# Altium schematic symbol library 电子脚扣终端主控板.SCHLIB: 16 symbols
Pins are listed as number, name and electrical type; pins without a type are passive.

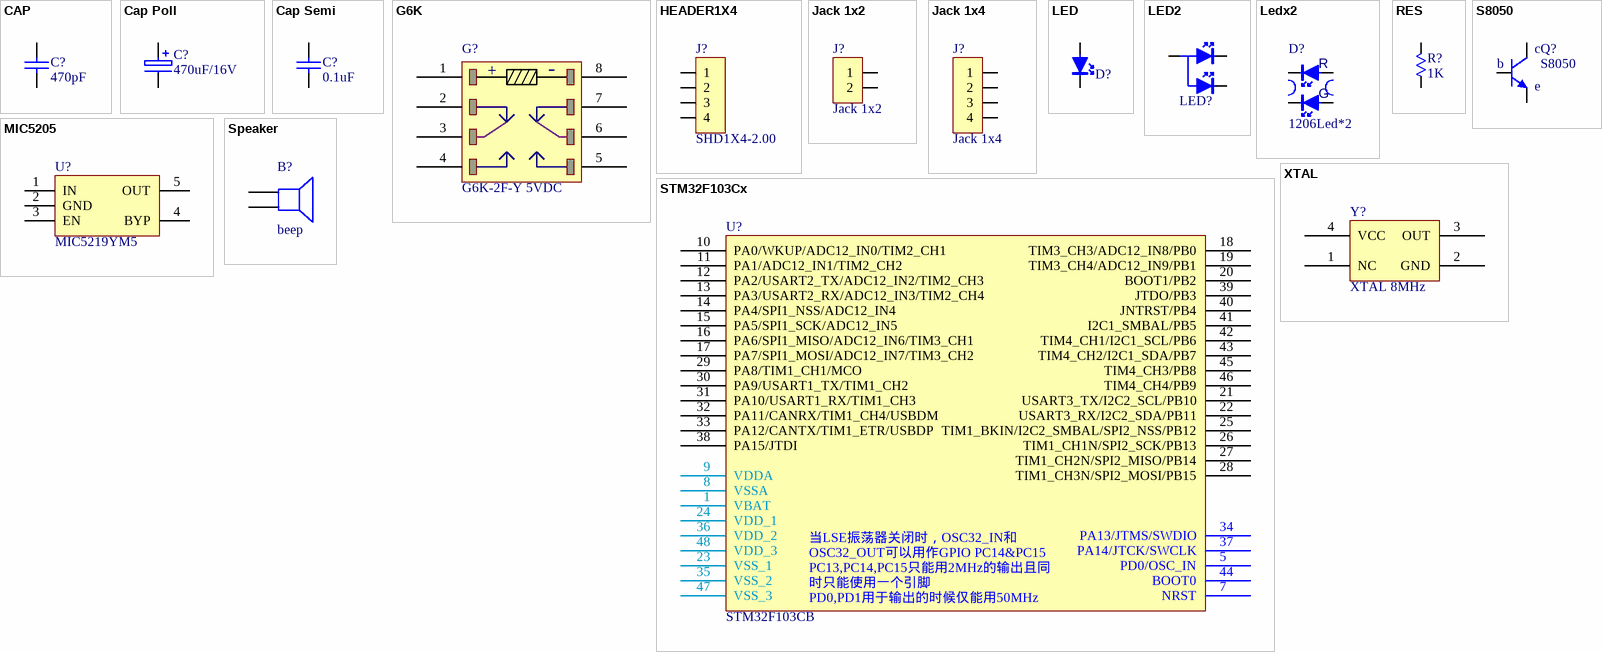
[diagram p0: symbols CAP to XTAL]

## CAP
designator C?, comment 470pF
CAP; Published: 8-Jun-2000; LatestRevisionDate: 17-Jul-2002; LatestRevisionNote: Re-released for DXP Platform.; PackageReference: RAD-0.3; Publisher: Altium Limited; Value: 470pF
footprint C0603
simulation model CAP (Capacitor)
signal-integrity model Cap
footprint C0603-W
footprint C0805
footprint C0805-W
footprint C1206
footprint C1210
footprint C1812
footprint C1825
footprint C0603-S
pins: 1, 2

## Cap Poll
designator C?, comment 470uF/16V
footprint Jk1*2-2.0
footprint C6.3*7.7 (100uF/35V)
footprint C8*10.5 (100uF/50V)
footprint C11.5*6.3 (100uF/35V)
footprint C12.4*13.6 (100uF/100V)
footprint C7343 (100uF/25V)
pins: 1, 2

## Cap Semi
designator C?, comment 0.1uF
footprint C0805
footprint C0603
footprint C1206
footprint C1210
pins: 1, 2

## G6K
designator G?, comment G6K-2F-Y 5VDC
欧姆龙小信号继电器, 1A 通电电流
footprint G6K-2F-Y
pins: 1, 2, 3, 4, 5, 6, 7, 8
text: +; -

## HEADER1X4
designator J?, comment SHD1X4-2.00
footprint Jk1*4-2.0 (4P，直插，2.0mm间距，排母)
pins: 1, 2, 3, 4

## Jack 1x2
designator J?
插座
footprint HDR1X2 (Connector; Header; 2 Position)
pins: 1, 2

## Jack 1x4
designator J?
插座
footprint Jk1*4-2.0 (4P，直插，2.0mm间距，排母)
pins: 1, 2, 3, 4

## LED
designator D?  (value not drawn)
footprint LED0603
footprint LED1206
footprint LED0603
footprint LED0805
pins: 1 A, 2 K

## LED2
designator LED?  (value not drawn)
footprint 双色LED3mm-90度
pins: 1 K, 2 A, 3 K

## Ledx2
designator D?, comment 1206Led*2
footprint LED1206*2
pins: 1 +, 2 R-, 3 +, 4 G-
text: R; G

## MIC5205
designator U?, comment MIC5219YM5
footprint SOT-23-5L (SOT23, 5-Leads, Body 3.0x3.0mm (max), Pitch 0.95mm, IPC Medium Density)
pins: 1 IN, 2 GND, 3 EN, 4 BYP, 5 OUT

## RES
designator R?, comment 1K
Resistor; Published: 8-Jun-2000; LatestRevisionDate: 17-Jul-2002; LatestRevisionNote: Re-released for DXP Platform.; PackageReference: AXIAL-0.3; Publisher: Altium Limited; Value: 1K
footprint R0603
simulation model RESISTOR (Resistor)
signal-integrity model Res
footprint R0603-W
footprint R0603-S
footprint R0805-W
footprint R1206
footprint R1206-W
footprint R1210
footprint R2010
footprint R2512
footprint R0805-S
pins: 1, 2

## S8050
designator Q?
NPN triode, 0.5A Max
footprint SOT-23
pins: 1 b, 2 e, 3 c

## Speaker
designator B?, comment beep
Loudspeaker; Published: 24-Mar-1999; LatestRevisionDate: 17-Jul-2002; LatestRevisionNote: Re-released for DXP Platform.; PackageReference: PIN2; Publisher: Altium Limited
footprint Jk1*2-2.0
pins: 1, 2

## STM32F103Cx
designator U?, comment STM32F103CB
footprint LQF48
pins: 1 VBAT (power), 2 PC13-TAMPER-RTC hidden, 3 PC14-OSC32_IN hidden, 4 PC15-OSC32_OUT hidden, 5 PD0/OSC_IN, 6 PD1/OSC_OUT hidden, 7 NRST, 8 VSSA (power), 9 VDDA (power), 10 PA0/WKUP/ADC12_IN0/TIM2_CH1, 11 PA1/ADC12_IN1/TIM2_CH2, 12 PA2/USART2_TX/ADC12_IN2/TIM2_CH3, 13 PA3/USART2_RX/ADC12_IN3/TIM2_CH4, 14 PA4/SPI1_NSS/ADC12_IN4, 15 PA5/SPI1_SCK/ADC12_IN5, 16 PA6/SPI1_MISO/ADC12_IN6/TIM3_CH1, 17 PA7/SPI1_MOSI/ADC12_IN7/TIM3_CH2, 18 TIM3_CH3/ADC12_IN8/PB0, 19 TIM3_CH4/ADC12_IN9/PB1, 20 BOOT1/PB2, 21 USART3_TX/I2C2_SCL/PB10, 22 USART3_RX/I2C2_SDA/PB11, 23 VSS_1 (power), 24 VDD_1 (power), 25 TIM1_BKIN/I2C2_SMBAL/SPI2_NSS/PB12, 26 TIM1_CH1N/SPI2_SCK/PB13, 27 TIM1_CH2N/SPI2_MISO/PB14, 28 TIM1_CH3N/SPI2_MOSI/PB15, 29 PA8/TIM1_CH1/MCO, 30 PA9/USART1_TX/TIM1_CH2, 31 PA10/USART1_RX/TIM1_CH3, 32 PA11/CANRX/TIM1_CH4/USBDM, 33 PA12/CANTX/TIM1_ETR/USBDP, 34 PA13/JTMS/SWDIO, 35 VSS_2 (power), 36 VDD_2 (power), 37 PA14/JTCK/SWCLK, 38 PA15/JTDI, 39 JTDO/PB3, 40 JNTRST/PB4, 41 I2C1_SMBAL/PB5, 42 TIM4_CH1/I2C1_SCL/PB6, 43 TIM4_CH2/I2C1_SDA/PB7, 44 BOOT0, 45 TIM4_CH3/PB8, 46 TIM4_CH4/PB9, 47 VSS_3 (power), 48 VDD_3 (power)
text: OSC32_IN和OSC32_OUT可以用作通用IO PC14和PC15; PC13,PC14,PC15只能用于2MHz的输出模式且同时只能使用一个引脚; 当LSE振荡器关闭时，OSC32_IN和OSC32_OUT可以用作GPIO PC14&PC15 / PC13,PC14,PC15只能用2MHz的输出且同时只能使用一个引脚 / PD0,PD1用于输出的时候仅能用50MHz

## XTAL
designator Y?, comment XTAL 8MHz
footprint SO-CRASTAL
footprint SO-CRASTAL - 5032
footprint XTAL5032
pins: 1 NC, 2 GND, 3 OUT, 4 VCC